# EAGLE library part SKY13317 (library switches)
Description: Device for SKY13317-373LF <http://www.skyworksinc.com/uploads/documents/SKY13317_373LF_200914K.pdf>, an RF switch from Skyworks Inc.
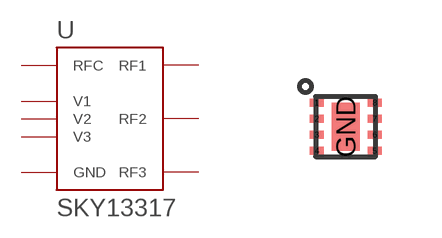
[diagram p14: symbol with the pads of MLPQ-UT-8; footprint MLPQ-UT-8]

Designator prefix U

## SKY13317 (DATASHEET: http://www.skyworksinc.com/uploads/documents/SKY13317_373LF_200914K.pdf; DESCRIPTION: IC SWITCH RF SP3T 8-MLP; DIGIKEY: 863-1056-1-ND; MANUFACTURER: Skyworks Solutions Inc.; MPN: SKY13317-373LF)  [MLPQ-UT-8]
1  RFC
3  V1
4  RF1
5  RF2
6  V2
7  V3
8  RF3
GND  GND  pwr

## Footprint MLPQ-UT-8 (pad centres in mm)
MLP 8-pin 1.5 x 1.5mm
smd 0.35 x 0.2: 1 -0.725,0.6; 2 -0.725,0.2; 3 -0.725,-0.2; 4 -0.725,-0.6; 5 0.725,-0.6; 6 0.725,-0.2; 7 0.725,0.2; 8 0.725,0.6
smd 0.7 x 1.2: GND 0,0